# Altium footprint library ZYNQEXP_PcbLib.PcbLib: 4 footprints
Each footprint in its own frame and in the unit in brackets; x right, y up, seen from the top. Pads: shape width x height; smd on the part's side, far side on the other; paste and mask are expansions set on the pad; w line width, h text height; cw(c..) or ccw(c..) is an arc to the next point about the centre after c.
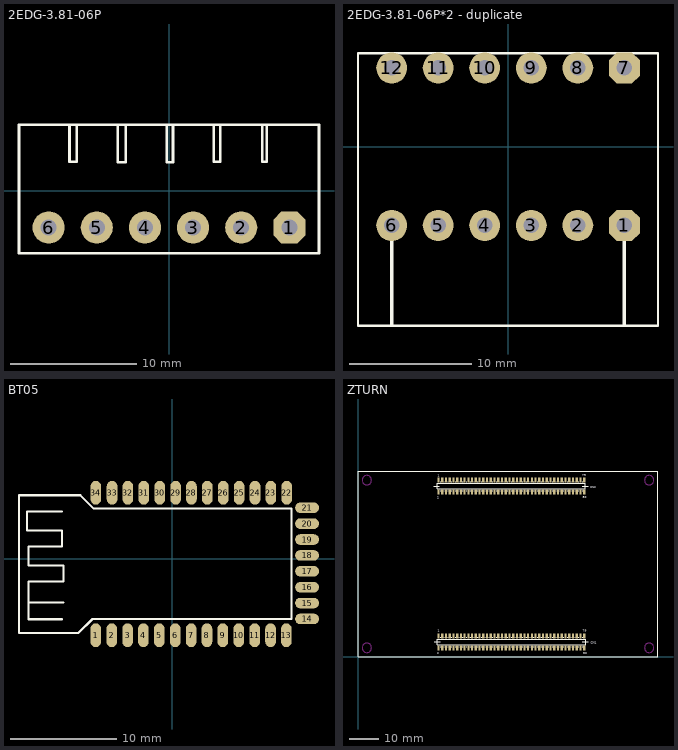
[diagram p0: the footprints below, top view; thin cyan lines are the x and y axes]

## 2EDG-3.81-06P [mil]
pads (6):
  oct 100x100 hole 50: 1(375,-114)
  round 100 hole 50: 2(225,-114) 3(75,-114) 4(-75,-114) 5(-225,-114) 6(-375,-114)
Top Overlay:
  lines w8: -310,205.96 -310,91 -287.48,91 -287.48,205.96 ; -160,203.96 -160,89 -135,89 -135,203.96 ; -7.48,203.96 -7.48,89 12.52,89 12.52,203.96 ; 140,205.96 140,91 160,91 160,205.96 ; 290,205.96 290,91 305,91 305,205.96 ; -467.32,-194 467.32,-194 467.32,206 -467.32,206 -467.32,-194

## 2EDG-3.81-06P*2 - duplicate [mm]
pads (12):
  oct 2.54x2.54 hole 1.27: 1(9.525,-6.45) 7(9.525,6.45)
  round 2.54 hole 1.27: 2(5.715,-6.45) 3(1.905,-6.45) 4(-1.905,-6.45) 5(-5.715,-6.45) 6(-9.525,-6.45) 8(5.715,6.45) 9(1.905,6.45) 10(-1.905,6.45) 11(-5.715,6.45) 12(-9.525,6.45)
Top Overlay:
  lines w0.203: -12.29,-14.65 12.29,-14.65 12.29,7.65 -12.29,7.65 -12.29,-14.65
  lines w0.254: -9.525,-14.605 -9.525,-6.45 ; 9.525,-14.65 9.525,-6.45

## BT05 [mm]
pads (34):
  oval 1x2.254 smd: 1(-7.237,-7.214) 2(-5.737,-7.214) 3(-4.237,-7.214) 4(-2.737,-7.214) 5(-1.237,-7.214) 6(0.263,-7.214) 7(1.763,-7.214) 8(3.263,-7.214) 9(4.763,-7.214) 10(6.263,-7.214) 11(7.763,-7.214) 12(9.263,-7.214) 13(10.763,-7.214) 22(10.797,6.248) 23(9.297,6.248) 24(7.797,6.248) 25(6.297,6.248) 26(4.797,6.248) 27(3.297,6.248) 28(1.797,6.248) 29(0.297,6.248) 30(-1.203,6.248) 31(-2.703,6.248) 32(-4.203,6.248) 33(-5.703,6.248) 34(-7.226,6.248)
  oval 2.254x1 smd: 14(12.713,-5.671) 15(12.713,-4.171) 16(12.713,-2.671) 17(12.713,-1.171) 18(12.713,0.329) 19(12.713,1.829) 20(12.713,3.329) 21(12.713,4.829)
Top Overlay:
  lines w0.2: -13.601,-4.115 -10.299,-4.115 ; -10.426,-5.696 -13.601,-5.696 -13.601,-3.918 -13.601,-2.14 -10.299,-2.14 -10.299,-0.616 -13.601,-0.616 -13.601,1.162 -10.426,1.162 -10.426,2.686 -13.728,2.686 -13.728,4.464 -10.426,4.464 ; -14.487,-6.987 -14.487,6.013 -8.696,6.013 -7.426,4.743 11.243,4.743 11.243,-5.671 -7.553,-5.671 -8.869,-6.987 -14.487,-6.987

## ZTURN [mm]
pads (160):
  rect 0.74x1.7 smd: 1(27.365,7.05) 2(27.365,2.95) 3(28.635,7.05) 4(28.635,2.95) 5(29.905,7.05) 6(29.905,2.95) 7(31.175,7.05) 8(31.175,2.95) 9(32.445,7.05) 10(32.445,2.95) 11(33.715,7.05) 12(33.715,2.95) 13(34.985,7.05) 14(34.985,2.95) 15(36.255,7.05) 16(36.255,2.95) 17(37.525,7.05) 18(37.525,2.95) 19(38.795,7.05) 20(38.795,2.95) 21(40.065,7.05) 22(40.065,2.95) 23(41.335,7.05) 24(41.335,2.95) 25(42.605,7.05) 26(42.605,2.95) 27(43.875,7.05) 28(43.875,2.95) 29(45.145,7.05) 30(45.145,2.95) 31(46.415,7.05) 32(46.415,2.95) 33(47.685,7.05) 34(47.685,2.95) 35(48.955,7.05) 36(48.955,2.95) 37(50.225,7.05) 38(50.225,2.95) 39(51.495,7.05) 40(51.495,2.95) 41(52.765,7.05) 42(52.765,2.95) 43(54.035,7.05) 44(54.035,2.95) 45(55.305,7.05) 46(55.305,2.95) 47(56.575,7.05) 48(56.575,2.95) 49(57.845,7.05) 50(57.845,2.95) 51(59.115,7.05) 52(59.115,2.95) 53(60.385,7.05) 54(60.385,2.95) 55(61.655,7.05) 56(61.655,2.95) 57(62.925,7.05) 58(62.925,2.95) 59(64.195,7.05) 60(64.195,2.95) 61(65.465,7.05) 62(65.465,2.95) 63(66.735,7.05) 64(66.735,2.95) 65(68.005,7.05) 66(68.005,2.95) 67(69.275,7.05) 68(69.275,2.95) 69(70.545,7.05) 70(70.545,2.95) 71(71.815,7.05) 72(71.815,2.95) 73(73.085,7.05) 74(73.085,2.95) 75(74.355,7.05) 76(74.355,2.95) 77(75.625,7.05) 78(75.625,2.95) 79(76.895,7.05) 80(76.895,2.95) 81(27.365,60.05) 82(27.365,55.95) 83(28.635,60.05) 84(28.635,55.95) 85(29.905,60.05) 86(29.905,55.95) 87(31.175,60.05) 88(31.175,55.95) 89(32.445,60.05) 90(32.445,55.95) 91(33.715,60.05) 92(33.715,55.95) 93(34.985,60.05) 94(34.985,55.95) 95(36.255,60.05) 96(36.255,55.95) 97(37.525,60.05) 98(37.525,55.95) 99(38.795,60.05) 100(38.795,55.95) 101(40.065,60.05) 102(40.065,55.95) 103(41.335,60.05) 104(41.335,55.95) 105(42.605,60.05) 106(42.605,55.95) 107(43.875,60.05) 108(43.875,55.95) 109(45.145,60.05) 110(45.145,55.95) 111(46.415,60.05) 112(46.415,55.95) 113(47.685,60.05) 114(47.685,55.95) 115(48.955,60.05) 116(48.955,55.95) 117(50.225,60.05) 118(50.225,55.95) 119(51.495,60.05) 120(51.495,55.95) 121(52.765,60.05) 122(52.765,55.95) 123(54.035,60.05) 124(54.035,55.95) 125(55.305,60.05) 126(55.305,55.95) 127(56.575,60.05) 128(56.575,55.95) 129(57.845,60.05) 130(57.845,55.95) 131(59.115,60.05) 132(59.115,55.95) 133(60.385,60.05) 134(60.385,55.95) 135(61.655,60.05) 136(61.655,55.95) 137(62.925,60.05) 138(62.925,55.95) 139(64.195,60.05) 140(64.195,55.95) 141(65.465,60.05) 142(65.465,55.95) 143(66.735,60.05) 144(66.735,55.95) 145(68.005,60.05) 146(68.005,55.95) 147(69.275,60.05) 148(69.275,55.95) 149(70.545,60.05) 150(70.545,55.95) 151(71.815,60.05) 152(71.815,55.95) 153(73.085,60.05) 154(73.085,55.95) 155(74.355,60.05) 156(74.355,55.95) 157(75.625,60.05) 158(75.625,55.95) 159(76.895,60.05) 160(76.895,55.95)
Top Overlay:
  drawing of 286 lines, arcs and shapes, not listed
  text "79" at 76.3,61.341 h0.71
  text "80" at 76.4,53.848 h0.71
  text "80" at 76.5,0.762 h0.71
  text "79" at 76.4,8.509 h0.71
  text "2" at 27,53.721 h0.71
  text "2" at 27,0.889 h0.71
  text "1" at 27.2,8.382 h0.71
  text "1" at 27.1,61.214 h0.71
  text "CN2" at 78.9,57.277 h0.71
  text "CN1" at 79.1,4.318 h0.71
Keep-Out Layer:
  circle w0.254: c3,60 r1.6
  circle w0.254: c99,60 r1.6
  circle w0.254: c99,3 r1.6
  circle w0.254: c3,3 r1.6